# Altium footprint library LEM.PcbLib: 1 footprints
Each footprint in its own frame and in the unit in brackets; x right, y up, seen from the top. Pads: shape width x height; smd on the part's side, far side on the other; paste and mask are expansions set on the pad; w line width, h text height; cw(c..) or ccw(c..) is an arc to the next point about the centre after c.
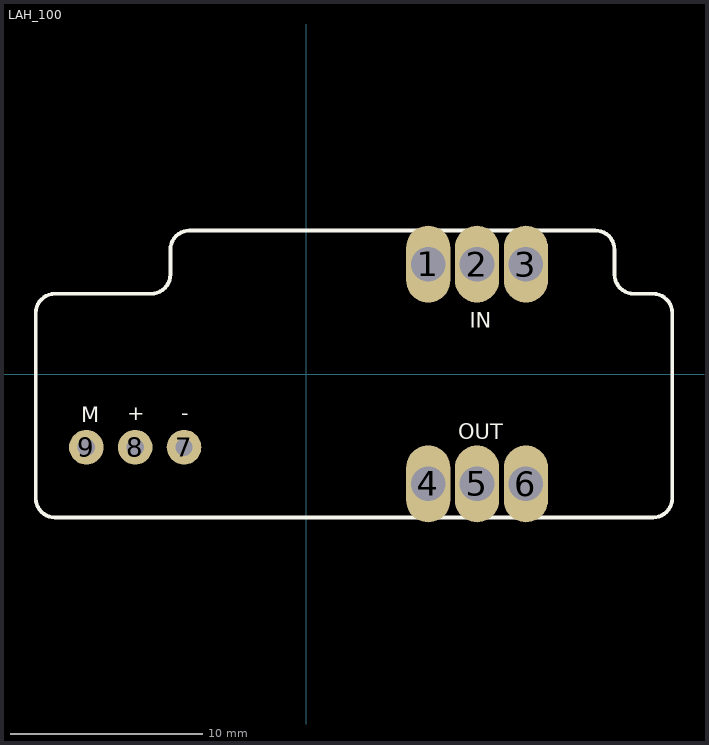
[diagram p0: the footprint, top view; thin cyan lines are the x and y axes]

## LAH_100 [mm]
pads (9):
  oval 2.3x4 hole 1.8: 1(6.35,5.715) 2(8.89,5.715) 3(11.43,5.715) 4(6.35,-5.715) 5(8.89,-5.715) 6(11.43,-5.715)
  round 1.8 hole 0.9: 7(-6.35,-3.81) 8(-8.89,-3.81) 9(-11.43,-3.81)
Top Overlay:
  lines w0.2: -14.06,-6.465 ccw(c-13.06,-6.465) -13.06,-7.465 18.04,-7.465 ccw(c18.04,-6.465) 19.04,-6.465 19.04,3.175 ccw(c18.04,3.175) 18.04,4.175 17.04,4.175 cw(c17.04,5.175) 16.04,5.175 16.04,6.465 ccw(c15.04,6.465) 15.04,7.465 -6.06,7.465 ccw(c-6.06,6.465) -7.06,6.465 -7.06,5.175 cw(c-8.06,5.175) -8.06,4.175 -13.06,4.175 ccw(c-13.06,3.175) -14.06,3.175 -14.06,-6.465
  text "OUT" at 7.9,-3.4 h0.8
  text "IN" at 8.5,2.4 h0.8
  text "-" at -6.5,-2.4 h0.8
  text "M" at -11.7,-2.5 h0.8
  text "+" at -9.3,-2.4 h0.8
3D body "LAH100-P.stp": height 21.3, standoff -3.5, extent -14.06,-7.48 19.14,7.48